# Altium integrated library DTST-61R-V.IntLib: 1 symbol
Pins are listed as number, name and electrical type; pins without a type are passive.

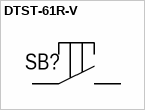
[diagram p0: symbol DTST-61R-V]

## DTST-61R-V
designator SB?  (value not drawn)
Tactile Switches Radial Taping
footprint DTST-61R-V (Push button, 2-Leads, Body 6.00x6.00mm, IPC Medium Density)
pins: 1, 2